# EAGLE library part MICROCLASP-26-DUAL (library Molex)
MicroClasp header, dual-row, 26 circuits
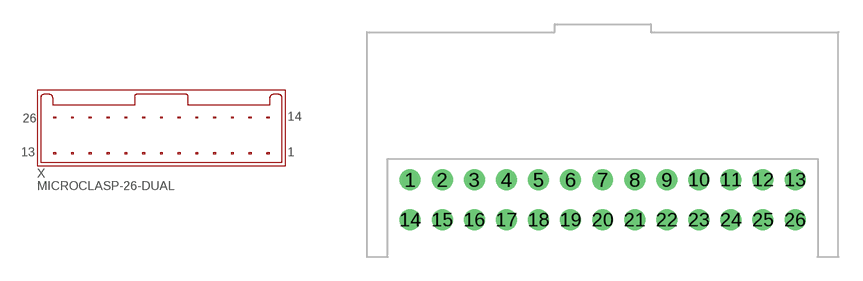
[diagram p15: symbol with the pads of MICROCLASP-26-DUAL-RA; footprint MICROCLASP-26-DUAL-RA]

Designator prefix X

## MICROCLASP-26-DUAL-RA (PARTNO: 55959-2630)  [MICROCLASP-26-DUAL-RA]
1  1
2  2
3  3
4  4
5  5
6  6
7  7
8  8
9  9
10  10
11  11
12  12
13  13
14  14
15  15
16  16
17  17
18  18
19  19
20  20
21  21
22  22
23  23
24  24
25  25
26  26

## Footprint MICROCLASP-26-DUAL-RA (pad centres in mm)
Molex Micro-Clasp connector, 26 positions, right angle http://www.molex.com/pdm_docs/sd/559593830_sd.pdf
drill 0.8 round: 1 -12,2.5; 2 -10,2.5; 3 -8,2.5; 4 -6,2.5; 5 -4,2.5; 6 -2,2.5; 7 0,2.5; 8 2,2.5; 9 4,2.5; 10 6,2.5; 11 8,2.5; 12 10,2.5; 13 12,2.5; 14 -12,0; 15 -10,0; 16 -8,0; 17 -6,0; 18 -4,0; 19 -2,0; 20 0,0; 21 2,0; 22 4,0; 23 6,0; 24 8,0; 25 10,0; 26 12,0